# EAGLE library part MAX17043 (library MyParts)
Compact, Low-Cost 1S/2S Fuel Gauges with Low-Battery Alert
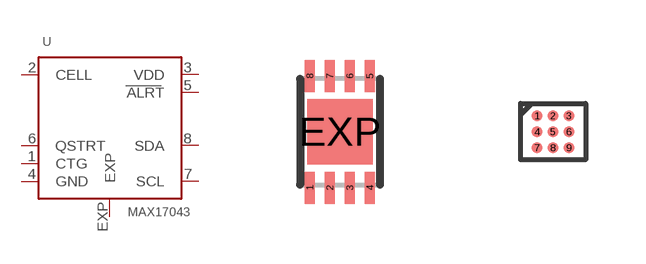
[diagram p4: symbol with the pads of TDFN8; footprints TDFN8, UCSP9]

Designator prefix -

## MAX17043G+U  [TDFN8]
1  CTG
2  CELL
3  VDD
4  GND
5  ALRT
6  QSTRT
7  SCL
8  SDA
EXP  EXP

## MAX17043X+  [UCSP9]
1  SDA
2  SCL
3  CTG
4  QSTRT
5  EXP
6  CELL
7  ALRT
8  VDD
9  GND

## MAX17043G+T  [TDFN8]
Pads as for TDFN8

## MAX17043X+T10  [UCSP9]
Pads as for UCSP9

## Footprint TDFN8 (pad centres in mm)
2x3mm 8 pin TDFN package
smd 0.25 x 0.8: 1 -0.755,-1.4; 2 -0.255,-1.4; 3 0.245,-1.4; 4 0.745,-1.4; 5 0.745,1.4; 6 0.245,1.4; 7 -0.255,1.4; 8 -0.755,1.4
smd 1.63 x 1.63: EXP 0,0

## Footprint UCSP9 (pad centres in mm)
Tiny 0.4mm Pitch 9-Bump UCSP Package 1.63x.1.45mm
smd 0.27 x 0.27: 1 -0.4,0.4; 2 0,0.4; 3 0.4,0.4; 4 -0.4,0; 5 0,0; 6 0.4,0; 7 -0.4,-0.4; 8 0,-0.4; 9 0.4,-0.4